# Altium footprint library Passive Component Footprints.PcbLib: 32 footprints (part 1 of 2)
Each footprint in its own frame and in the unit in brackets; x right, y up, seen from the top. Pads: shape width x height; smd on the part's side, far side on the other; paste and mask are expansions set on the pad; w line width, h text height; cw(c..) or ccw(c..) is an arc to the next point about the centre after c.
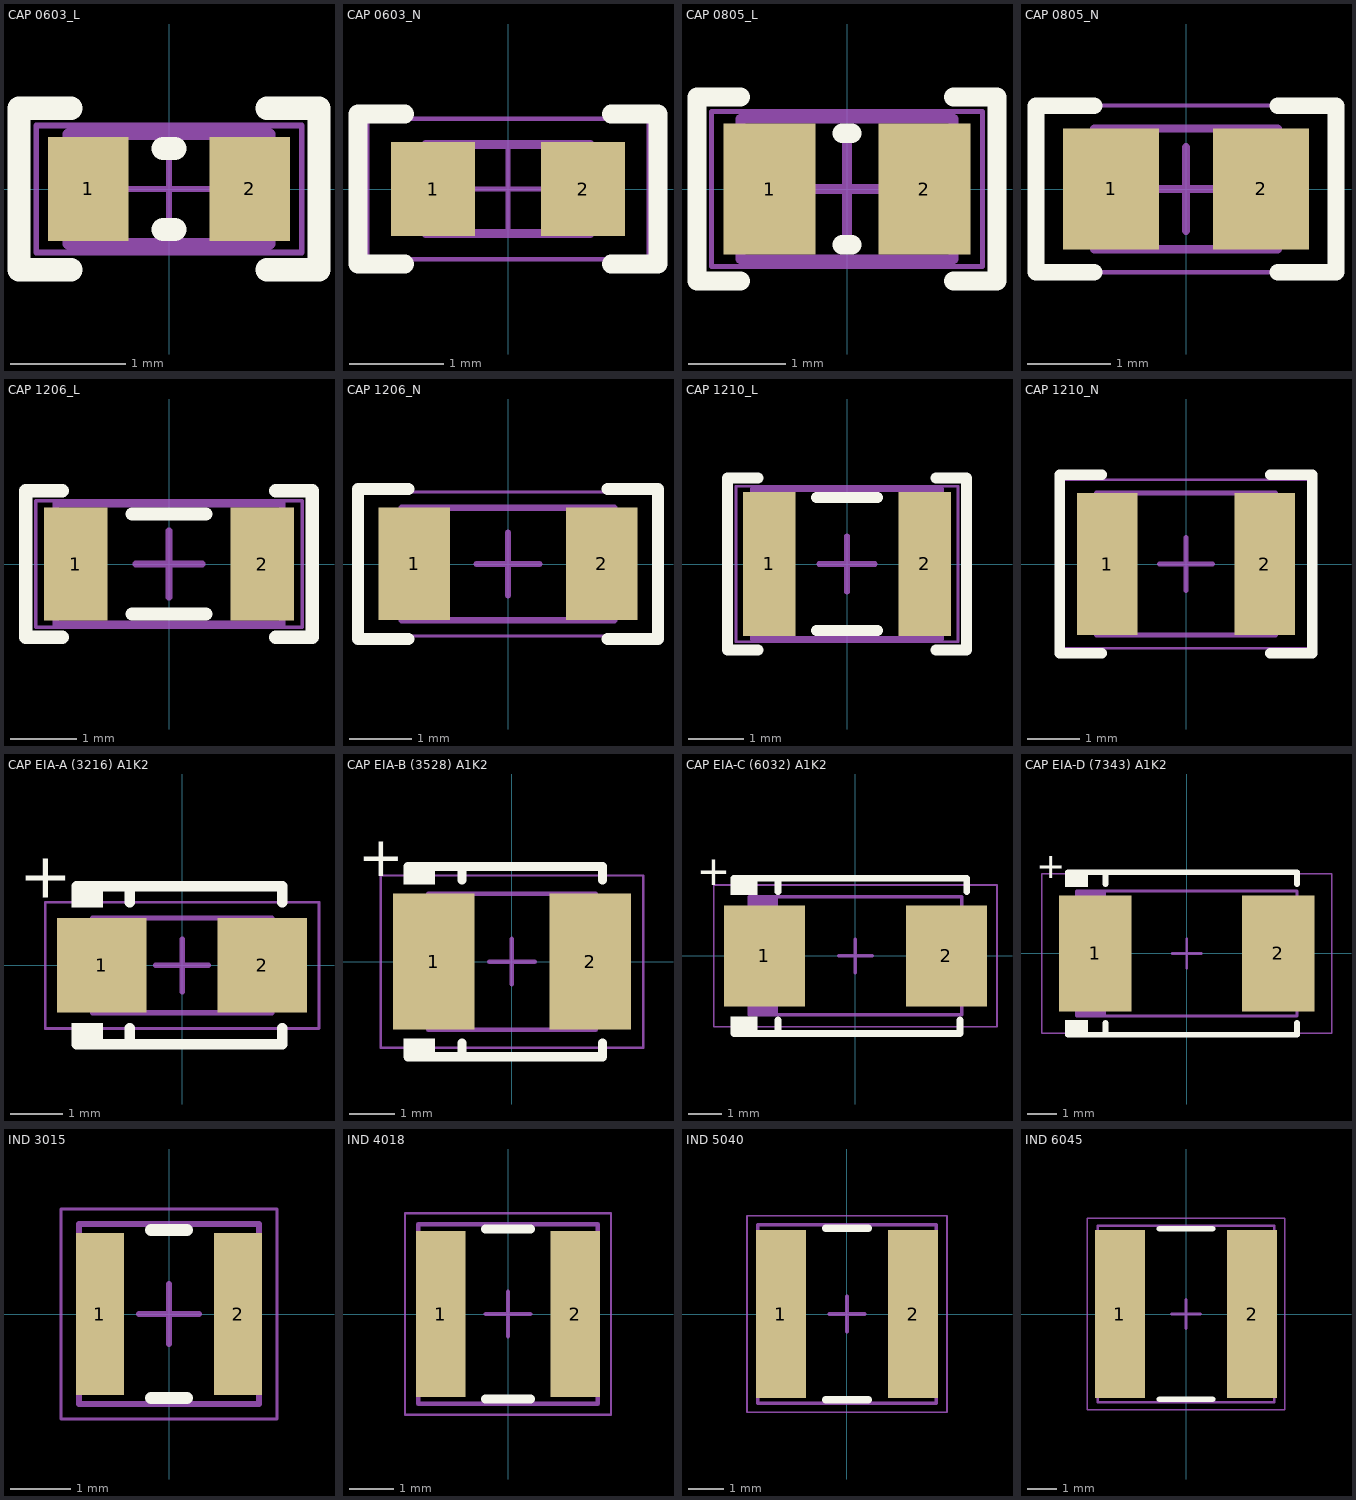
[diagram p0: the footprints below, top view; thin cyan lines are the x and y axes]

## CAP 0603_L [mm] "Chip Capacitor, Body 1.6x0.8mm, Height 0.55mm, IPC High Density"
height 0.55
pads (2):
  rect 0.7x0.9 smd: 1(-0.7,0) 2(0.7,0)
Top Overlay:
  lines w0.2: -0.85,-0.7 -1.3,-0.7 -1.3,0.7 -0.85,0.7 ; -0.05,-0.35 0.05,-0.35 ; -0.05,0.35 0.05,0.35 ; 0.85,-0.7 1.3,-0.7 1.3,0.7 0.85,0.7
Mechanical 13:
  lines w0.1: -0.875,-0.475 0.875,-0.475 0.875,0.475 -0.875,0.475 -0.875,-0.475
Mechanical 15:
  lines w0.05: -0.475,0 0.475,0 ; 0,-0.475 0,0.475 ; -1.15,-0.55 1.15,-0.55 1.15,0.55 -1.15,0.55 -1.15,-0.55
3D body: height 0.55, standoff 0, extent -0.525,-0.475 0.525,0.475
3D body: height 0.55, standoff 0, extent -0.875,-0.475 -0.525,0.475
3D body: height 0.55, standoff 0, extent 0.525,-0.475 0.875,0.475

## CAP 0603_N [mm] "Chip Capacitor, Body 1.6x0.8mm, Height 0.55mm, IPC Medium Density"
height 0.55
pads (2):
  rect 0.9x1 smd: 1(-0.8,0) 2(0.8,0)
Top Overlay:
  lines w0.2: -1.1,-0.8 -1.6,-0.8 -1.6,0.8 -1.1,0.8 ; 1.1,-0.8 1.6,-0.8 1.6,0.8 1.1,0.8
Mechanical 13:
  lines w0.1: -0.875,-0.475 0.875,-0.475 0.875,0.475 -0.875,0.475 -0.875,-0.475
Mechanical 15:
  lines w0.05: -0.475,0 0.475,0 ; 0,-0.475 0,0.475 ; -1.5,-0.75 1.5,-0.75 1.5,0.75 -1.5,0.75 -1.5,-0.75
3D body: height 0.55, standoff 0, extent 0.525,-0.475 0.875,0.475
3D body: height 0.55, standoff 0, extent -0.875,-0.475 -0.525,0.475
3D body: height 0.55, standoff 0, extent -0.525,-0.475 0.525,0.475

## CAP 0805_L [mm] "Chip Capacitor, Body 2.0x1.2mm, Height 0.75mm, IPC High Density"
height 0.75
pads (2):
  rect 0.95x1.35 smd: 1(-0.8,0) 2(0.8,0)
Top Overlay:
  lines w0.2: -1.1,-0.95 -1.55,-0.95 -1.55,0.95 -1.1,0.95 ; -0.05,-0.575 0.05,-0.575 ; -0.05,0.575 0.05,0.575 ; 1.1,-0.95 1.55,-0.95 1.55,0.95 1.1,0.95
Mechanical 13:
  lines w0.1: -1.1,-0.725 1.1,-0.725 1.1,0.725 -1.1,0.725 -1.1,-0.725
Mechanical 15:
  lines w0.05: -1.4,-0.8 1.4,-0.8 1.4,0.8 -1.4,0.8 -1.4,-0.8
  lines w0.1: -0.5,0 0.5,0 ; 0,-0.5 0,0.5
3D body: height 0.75, standoff 0, extent 0.6,-0.725 1.1,0.725
3D body: height 0.75, standoff 0, extent -1.1,-0.725 -0.6,0.725
3D body: height 0.75, standoff 0, extent -0.6,-0.725 0.6,0.725

## CAP 0805_N [mm] "Chip Capacitor, Body 2.0x1.2mm, Height 0.75mm, IPC Medium Density"
height 0.75
pads (2):
  rect 1.15x1.45 smd: 1(-0.9,0) 2(0.9,0)
Top Overlay:
  lines w0.2: -1.1,-1 -1.8,-1 -1.8,-0.9 -1.8,1 -1.1,1 ; 1.1,-1 1.8,-1 1.8,1 1.1,1
Mechanical 13:
  lines w0.1: -1.1,-0.725 1.1,-0.725 1.1,0.725 -1.1,0.725 -1.1,-0.725
Mechanical 15:
  lines w0.05: -1.75,-1 1.75,-1 1.75,1 -1.75,1 -1.75,-1
  lines w0.1: -0.5,0 0.5,0 ; 0,-0.5 0,0.5
3D body: height 0.75, standoff 0, extent 0.6,-0.725 1.1,0.725
3D body: height 0.75, standoff 0, extent -1.1,-0.725 -0.6,0.725
3D body: height 0.75, standoff 0, extent -0.6,-0.725 0.6,0.725

## CAP 1206_L [mm] "Chip Capacitor, Body 3.2x1.6mm, Height 0.75mm, IPC High Density"
height 0.75
pads (2):
  rect 0.95x1.7 smd: 1(-1.4,0) 2(1.4,0)
Top Overlay:
  lines w0.2: -1.6,-1.1 -2.15,-1.1 -2.15,1.1 -1.6,1.1 ; -0.55,-0.75 0.55,-0.75 ; -0.55,0.75 0.55,0.75 ; 1.6,-1.1 2.15,-1.1 2.15,1.1 1.6,1.1
Mechanical 13:
  lines w0.1: -1.7,-0.9 -1.7,0.9 1.7,0.9 1.7,-0.9 -1.7,-0.9
Mechanical 15:
  lines w0.05: -2,-0.95 -2,0.95 2,0.95 2,-0.95 -2,-0.95
  lines w0.1: -0.5,0 0.5,0 ; 0,-0.5 0,0.5
3D body: height 0.75, standoff 0, extent -1.2,-0.9 1.2,0.9
3D body: height 0.75, standoff 0, extent -1.7,-0.9 -1.2,0.9
3D body: height 0.75, standoff 0, extent 1.2,-0.9 1.7,0.9

## CAP 1206_N [mm] "Chip Capacitor, Body 3.2x1.6mm, Height 0.75mm, IPC Medium Density"
height 0.75
pads (2):
  rect 1.15x1.8 smd: 1(-1.5,0) 2(1.5,0)
Top Overlay:
  lines w0.2: -1.6,-1.2 -2.4,-1.2 -2.4,1.2 -1.6,1.2 ; 1.6,-1.2 2.4,-1.2 2.4,1.2 1.6,1.2
Mechanical 13:
  lines w0.1: -1.7,-0.9 1.7,-0.9 1.7,0.9 -1.7,0.9 -1.7,-0.9
Mechanical 15:
  lines w0.05: -2.35,-1.15 2.35,-1.15 2.35,1.15 -2.35,1.15 -2.35,-1.15
  lines w0.1: -0.5,0 0.5,0 ; 0,-0.5 0,0.5
3D body: height 0.75, standoff 0, extent 1.2,-0.9 1.7,0.9
3D body: height 0.75, standoff 0, extent -1.7,-0.9 -1.2,0.9
3D body: height 0.75, standoff 0, extent -1.2,-0.9 1.2,0.9

## CAP 1210_L [mm] "Chip Capacitor, Body 3.2x2.5mm, Height 0.7mm, IPC High Density"
height 0.7
pads (2):
  rect 0.95x2.6 smd: 1(-1.4,0) 2(1.4,0)
Top Overlay:
  lines w0.2: -1.6,-1.55 -2.15,-1.55 -2.15,1.55 -1.6,1.55 ; -0.55,-1.2 0.55,-1.2 ; -0.55,1.2 0.55,1.2 ; 1.6,-1.55 2.15,-1.55 2.15,1.55 1.6,1.55
Mechanical 13:
  lines w0.1: -1.7,-1.35 -1.7,1.35 1.7,1.35 1.7,-1.35 -1.7,-1.35
Mechanical 15:
  lines w0.05: -2,-1.4 -2,1.4 2,1.4 2,-1.4 -2,-1.4
  lines w0.1: -0.5,0 0.5,0 ; 0,-0.5 0,0.5
3D body: height 0.7, standoff 0, extent -1.2,-1.35 1.2,1.35
3D body: height 0.7, standoff 0, extent -1.7,-1.35 -1.2,1.35
3D body: height 0.7, standoff 0, extent 1.2,-1.35 1.7,1.35

## CAP 1210_N [mm] "Chip Capacitor, Body 3.2x2.5mm, Height 0.7mm, IPC Medium Density"
height 0.7
pads (2):
  rect 1.15x2.7 smd: 1(-1.5,0) 2(1.5,0)
Top Overlay:
  lines w0.2: -1.6,-1.7 -2.4,-1.7 -2.4,1.7 -1.6,1.7 ; 1.6,-1.7 2.4,-1.7 2.4,1.7 1.6,1.7
Mechanical 13:
  lines w0.1: -1.7,-1.35 -1.7,1.35 1.7,1.35 1.7,-1.35 -1.7,-1.35
Mechanical 15:
  lines w0.05: -2.35,-1.6 -2.35,1.6 2.35,1.6 2.35,-1.6 -2.35,-1.6
  lines w0.1: -0.5,0 0.5,0 ; 0,-0.5 0,0.5
3D body: height 0.7, standoff 0, extent -1.2,-1.35 1.2,1.35
3D body: height 0.7, standoff 0, extent -1.7,-1.35 -1.2,1.35
3D body: height 0.7, standoff 0, extent 1.2,-1.35 1.7,1.35

## CAP EIA-A (3216) A1K2 [mm] "Molded Capacitor, 2-Leads, Body 3.20x1.60mm, IPC Medium Density"
height 1.8
pads (2):
  rect 1.7x1.8 smd: 1(-1.525,0) 2(1.525,0)
Top Overlay:
  rectangle: -2.1,-1.5 -1.5,-1.1
  rectangle: -2.1,1.1 -1.5,1.5
  lines w0.2: -2,-1.5 1.9,-1.5 1.9,-1.2 ; -2,1.5 1.9,1.5 1.9,1.2 ; -1,-1.5 -1,-1.2 ; -1,1.2 -1,1.5
  text "+" at -3.1,1 h1.5
Mechanical 13:
  rectangle: -1.7,-0.9 -1.243,0.9
  lines w0.1: -1.7,-0.9 -1.7,0.9 1.7,0.9 1.7,-0.9 -1.7,-0.9
Mechanical 15:
  lines w0.05: -2.6,-1.2 -2.6,1.2 2.6,1.2 2.6,-1.2 -2.6,-1.2
  lines w0.1: -0.5,0 0.5,0 ; 0,-0.5 0,0.5
3D body: height 1.9, standoff 1.8, extent -1.7,-0.9 -1.3,0.9
3D body: height 1.8, standoff 0, extent -1.7,-0.9 1.7,0.9

## CAP EIA-B (3528) A1K2 [mm] "Molded Capacitor, 2-Leads, Body 3.50x2.80mm, IPC Medium Density"
height 2.1
pads (2):
  rect 1.8x3 smd: 1(-1.725,0) 2(1.725,0)
Top Overlay:
  rectangle: -2.4,-2.1 -1.7,-1.7
  rectangle: -2.4,1.7 -1.7,2.1
  lines w0.2: -2.3,-2.1 2,-2.1 2,-1.8 ; -2.3,2.1 2,2.1 2,1.8 ; -1.1,-2.1 -1.1,-1.8 ; -1.1,1.8 -1.1,2.1
  text "+" at -3.4,1.6 h1.5
Mechanical 13:
  rectangle: -1.85,-1.5 -1.352,1.5
  lines w0.1: -1.85,-1.5 -1.85,1.5 1.85,1.5 1.85,-1.5 -1.85,-1.5
Mechanical 15:
  lines w0.05: -2.9,-1.9 -2.9,1.9 2.9,1.9 2.9,-1.9 -2.9,-1.9
  lines w0.1: -0.5,0 0.5,0 ; 0,-0.5 0,0.5
3D body: height 2.2, standoff 2.1, extent -1.825,-1.5 -1.375,1.5
3D body: height 2.1, standoff 0, extent -1.85,-1.5 1.85,1.5

## CAP EIA-C (6032) A1K2 [mm] "Molded Capacitor, 2-Leads, Body 6.00x3.20mm, IPC Medium Density"
height 2.8
pads (2):
  rect 2.4x3 smd: 1(-2.7,0) 2(2.7,0)
Top Overlay:
  rectangle: -3.7,1.8 -2.9,2.3
  rectangle: -3.7,-2.3 -2.9,-1.8
  lines w0.2: -3.6,-2.3 3.1,-2.3 3.1,-1.9 ; -3.6,2.3 3.3,2.3 3.3,1.9 ; -2.3,-2.3 -2.3,-1.9 ; -2.3,1.9 -2.3,2.3
  text "+" at -4.7,1.8 h1.5
Mechanical 13:
  rectangle: -3.15,-1.75 -2.303,1.75
  lines w0.1: -3.15,-1.75 3.15,-1.75 3.15,1.75 -3.15,1.75 -3.15,-1.75
Mechanical 15:
  lines w0.05: -4.2,-2.1 4.2,-2.1 4.2,2.1 -4.2,2.1 -4.2,-2.1
  lines w0.1: -0.5,0 0.5,0 ; 0,-0.5 0,0.5
3D body: height 2.9, standoff 2.8, extent -3.15,-1.75 -2.3,1.75
3D body: height 2.8, standoff 0, extent -3.15,-1.75 3.15,1.75

## CAP EIA-D (7343) A1K2 [mm] "Molded Capacitor, 2-Leads, Body 7.30x4.30mm, IPC Medium Density"
height 3.1
pads (2):
  rect 2.5x4 smd: 1(-3.15,0) 2(3.15,0)
Top Overlay:
  rectangle: -4.2,2.3 -3.4,2.8
  rectangle: -4.2,-2.8 -3.4,-2.3
  lines w0.2: -4.1,-2.8 3.8,-2.8 3.8,-2.4 ; -4.1,2.8 3.8,2.8 3.8,2.4 ; -2.8,-2.8 -2.8,-2.4 ; -2.8,2.4 -2.8,2.8
  text "+" at -5.2,2.3 h1.5
Mechanical 13:
  rectangle: -3.8,-2.15 -2.778,2.15
  lines w0.1: -3.8,-2.15 -3.8,2.15 3.8,2.15 3.8,-2.15 -3.8,-2.15
Mechanical 15:
  lines w0.05: -5,-2.75 -5,2.75 5,2.75 5,-2.75 -5,-2.75
  lines w0.1: -0.5,0 0.5,0 ; 0,-0.5 0,0.5
3D body: height 3.2, standoff 3.1, extent -3.8,-2.15 -2.8,2.15
3D body: height 3.1, standoff 0, extent -3.8,-2.15 3.8,2.15

## IND 3015 [mm] "SMD Power Inductor, 2-Leads, Body 3.0x3.0mm"
height 1.5
pads (2):
  rect 0.8x2.7 smd: 1(-1.15,0) 2(1.15,0)
Top Overlay:
  lines w0.2: -0.3,-1.4 0.3,-1.4 ; -0.3,1.4 0.3,1.4
Mechanical 13:
  lines w0.1: -1.5,-1.5 1.5,-1.5 1.5,1.5 -1.5,1.5 -1.5,-1.5
Mechanical 15:
  lines w0.05: -1.8,-1.75 -1.8,1.75 1.8,1.75 1.8,-1.75 -1.8,-1.75
  lines w0.1: -0.5,0 0.5,0 ; 0,-0.5 0,0.5
3D body "LQS_3015.stp": height 1.48, standoff -0.02, extent -1.5,-1.5 1.5,1.5

## IND 4018 [mm] "SMD Power Inductor, 2-Leads, Body 4.0x4.0mm"
height 1.8
pads (2):
  rect 1.1x3.7 smd: 1(-1.5,0) 2(1.5,0)
Top Overlay:
  lines w0.2: -0.5,-1.9 0.5,-1.9 ; -0.5,1.9 0.5,1.9
Mechanical 13:
  lines w0.1: -2,-2 -2,2 2,2 2,-2 -2,-2
Mechanical 15:
  lines w0.05: -2.3,-2.25 -2.3,2.25 2.3,2.25 2.3,-2.25 -2.3,-2.25
  lines w0.1: -0.5,0 0.5,0 ; 0,-0.5 0,0.5
3D body "LQS_4018.stp": height 1.78, standoff -0.02, extent -2,-2 2,2

## IND 5040 [mm] "SMD Power Inductor, 2-Leads, Body 5.0x5.0mm"
height 4
pads (2):
  rect 1.4x4.7 smd: 1(-1.85,0) 2(1.85,0)
Top Overlay:
  lines w0.2: -0.6,-2.4 0.6,-2.4 ; -0.6,2.4 0.6,2.4
Mechanical 13:
  lines w0.1: -2.5,-2.5 2.5,-2.5 2.5,2.5 -2.5,2.5 -2.5,-2.5
Mechanical 15:
  lines w0.05: -2.8,-2.75 2.8,-2.75 2.8,2.75 -2.8,2.75 -2.8,-2.75
  lines w0.1: -0.5,0 0.5,0 ; 0,-0.5 0,0.5
3D body "LQS_5040.stp": height 3.99, standoff -0.01, extent -2.5,-2.5 2.5,2.5

## IND 6045 [mm] "SMD Power Inductor, 2-Leads, Body 6.0x6.0mm"
height 4.5
pads (2):
  rect 1.7x5.7 smd: 1(-2.25,0) 2(2.25,0)
Top Overlay:
  lines w0.2: -0.9,-2.9 0.9,-2.9 ; -0.9,2.9 0.9,2.9
Mechanical 13:
  lines w0.1: -3,-3 3,-3 3,3 -3,3 -3,-3
Mechanical 15:
  lines w0.05: -3.35,-3.25 3.35,-3.25 3.35,3.25 -3.35,3.25 -3.35,-3.25
  lines w0.1: -0.5,0 0.5,0 ; 0,-0.5 0,0.5
3D body "LQS_6045.stp": height 4.47, standoff -0.03, extent -3,-3 3,3